# Altium footprint library MICRO_USB3.0_SINK.PcbLib: 1 footprints
Each footprint in its own frame and in the unit in brackets; x right, y up, seen from the top. Pads: shape width x height; smd on the part's side, far side on the other; paste and mask are expansions set on the pad; w line width, h text height; cw(c..) or ccw(c..) is an arc to the next point about the centre after c.
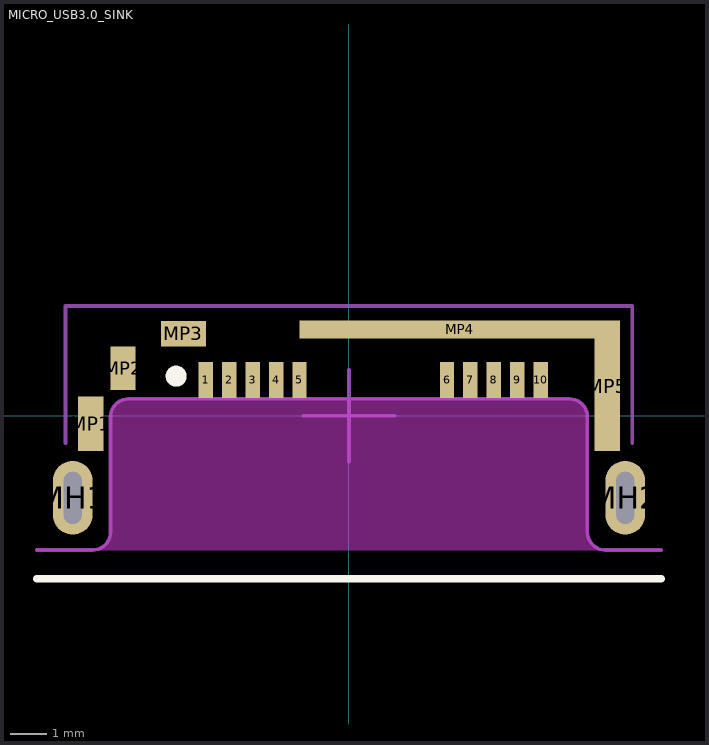
[diagram p0: the footprint, top view; thin cyan lines are the x and y axes]

## MICRO_USB3.0_SINK [mm]
pads (17):
  rect 0.4x1 smd: 1(-3.975,0.995) 2(-3.325,0.995) 3(-2.675,0.995) 4(-2.025,0.995) 5(-1.375,0.995) 6(2.725,0.995) 7(3.375,0.995) 8(4.025,0.995) 9(4.675,0.995) 10(5.325,0.995)
  oval 1.1x2.05 hole 0.5 slot 1.45 at 90 deg: MH1(-7.675,-2.28) MH2(7.675,-2.28)
  rect 0.7x1.51 smd: MP1(-7.175,-0.225)
  rect 0.7x1.21 smd: MP2(-6.275,1.325)
  rect 1.25x0.7 smd: MP3(-4.6,2.28)
  rect 8.9x0.5 smd: MP4(3.075,2.4)
  rect 0.7x3.61 smd: MP5(7.175,0.825)
Top Overlay:
  circle w0.3: c-4.8,1.1 r0.141
  lines w0.2: -8.675,-4.53 8.675,-4.53
Keep-Out Layer:
  board cut-out: -7.175,-3.741 -6.96,-3.698 -6.778,-3.577 -6.657,-3.395 -6.614,-3.18 -6.625,-3.18 -6.636,-0.08 -6.593,0.135 -6.472,0.317 -6.29,0.438 -6.075,0.481 -6.075,0.47 6.075,0.481 6.29,0.438 6.472,0.317 6.593,0.135 6.636,-0.08 6.625,-0.08 6.615,-3.23 6.654,-3.425 6.765,-3.59 6.93,-3.701 7.125,-3.74 7.125,-3.73
  lines w0.05: -8.675,-3.73 -7.125,-3.73 ; 8.675,-3.73 7.125,-3.73 ; -7.125,-3.73 ccw(c-7.125,-3.23) -6.625,-3.23 -6.625,-0.03 cw(c-6.125,-0.03) -6.125,0.47 6.125,0.47 cw(c6.125,-0.03) 6.625,-0.03 6.625,-3.23 ccw(c7.125,-3.23) 7.125,-3.73 ; -7.125,-3.73 -7.125,-3.73 ; 7.125,-3.73 7.125,-3.73
Mechanical 1:
  lines w0.1: -8.675,-3.73 -7.125,-3.73 ; 8.675,-3.73 7.125,-3.73 ; -7.125,-3.73 ccw(c-7.125,-3.23) -6.625,-3.23 -6.625,-0.03 cw(c-6.125,-0.03) -6.125,0.47 6.125,0.47 cw(c6.125,-0.03) 6.625,-0.03 6.625,-3.23 ccw(c7.125,-3.23) 7.125,-3.73 ; -7.125,-3.73 -7.125,-3.73 ; 7.125,-3.73 7.125,-3.73
Mechanical 15:
  lines w0.1: -7.874,-0.762 -7.874,3.048 7.874,3.048 7.874,-0.762 ; -1.27,0 1.27,0 ; 0,-1.27 0,1.27
Multi-Layer:
  region: -7.175,-3.741 -6.96,-3.698 -6.778,-3.577 -6.657,-3.395 -6.614,-3.18 -6.625,-3.18 -6.636,-0.08 -6.593,0.135 -6.472,0.317 -6.29,0.438 -6.075,0.481 -6.075,0.47 6.075,0.481 6.29,0.438 6.472,0.317 6.593,0.135 6.636,-0.08 6.625,-0.08 6.615,-3.23 6.654,-3.425 6.765,-3.59 6.93,-3.701 7.125,-3.74 7.125,-3.73
3D body: height 0.99, standoff -1.26, extent -7.677,-4.538 7.697,2.479